# EAGLE library part 12F683 (library custom)
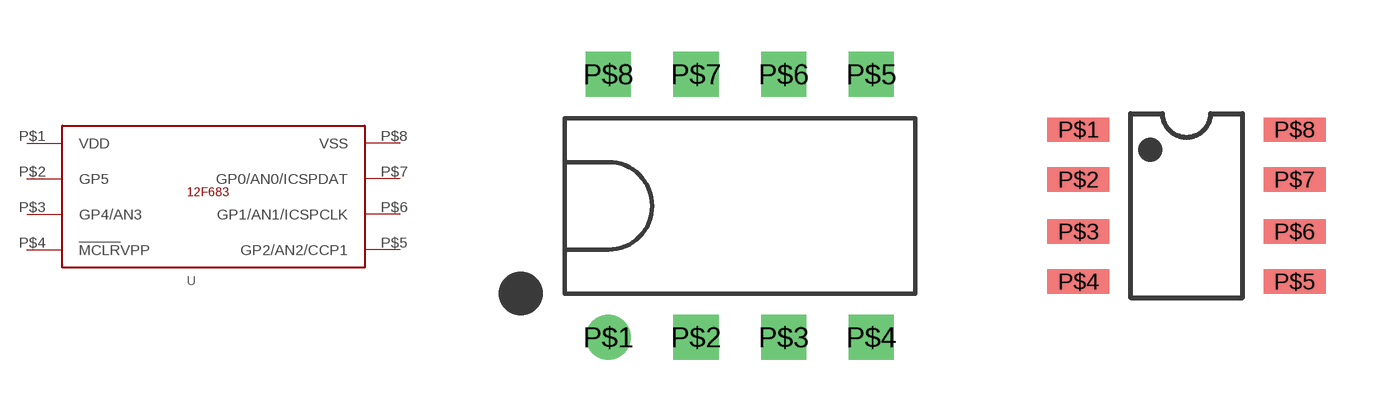
[diagram p26: symbol with the pads of 12F683; footprints 12F683, SOIC_8N]

Designator prefix -

## 12F683  [12F683]
P$1  VDD
P$2  GP5
P$3  GP4/AN3
P$4  !MCLR!VPP
P$5  GP2/AN2/CCP1
P$6  GP1/AN1/ICSPCLK
P$7  GP0/AN0/ICSPDAT
P$8  VSS

## 12F683SOIC  [SOIC_8N]
Pads as for 12F683

## 12F683SOCKET  [DIP08_SOCKET]
Pads as for 12F683

## Footprint 12F683 (pad centres in mm)
drill 0.8 round: P$1 -3.81,-3.81
drill 0.8 square: P$2 -1.27,-3.81; P$3 1.27,-3.81; P$4 3.81,-3.81; P$5 3.81,3.81; P$6 1.27,3.81; P$7 -1.27,3.81; P$8 -3.81,3.81

## Footprint SOIC_8N (pad centres in mm)
smd 1.55 x 0.6: P$1 -2.7,1.9; P$2 -2.7,0.65; P$3 -2.7,-0.65; P$4 -2.7,-1.9; P$5 2.7,-1.9; P$6 2.7,-0.65; P$7 2.7,0.65; P$8 2.7,1.9

## Footprint DIP08_SOCKET (pad centres in mm)
drill 0.8 round: P$1 -3.81,-3.81
drill 0.8 square: P$2 -1.27,-3.81; P$3 1.27,-3.81; P$4 3.81,-3.81; P$5 3.81,3.81; P$6 1.27,3.81; P$7 -1.27,3.81; P$8 -3.81,3.81